# Altium schematic symbol library ADM7151.Schlib: 1 symbol
Pins are listed as number, name and electrical type; pins without a type are passive.

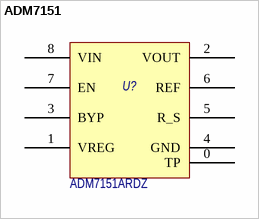
[diagram p0: symbol ADM7151]

## ADM7151
designator U?  Наименование: ADM7151ARDZ  (hidden comment: ADM7151)
800 mA Ultralow Noise, High PSRR, Adjustable, RF Linear Regulator; Назначение: Линейные регулятор, подстраевыемый; Потребление, Вт: 0,1
footprint SOIC-8 + Exposed Pad
pins: 0 TP, 1 VREG, 2 VOUT, 3 BYP, 4 GND, 5 R_S, 6 REF, 7 EN, 8 VIN